# EAGLE library part A4988 (library behaviour_pcb_parts)
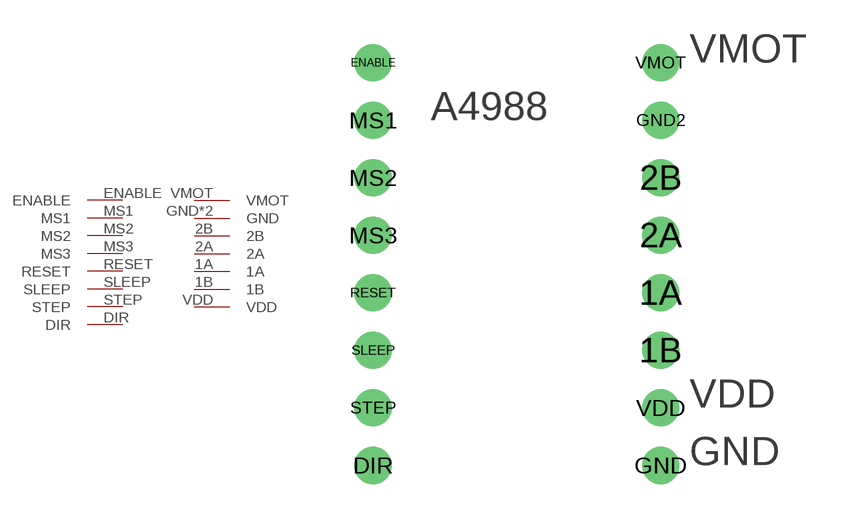
[diagram p0: symbol with the pads of A4988; footprint A4988]

Designator prefix -

## A4988  [A4988]
1A  1A
1B  1B
2A  2A
2B  2B
DIR  DIR
ENABLE  ENABLE
GND  GND
GND2  GND
MS1  MS1
MS2  MS2
MS3  MS3
RESET  RESET
SLEEP  SLEEP
STEP  STEP
VDD  VDD
VMOT  VMOT

## Footprint A4988 (pad centres in mm)
drill 1.1: 1A 12.7,-2.54; 1B 12.7,-5.08; 2A 12.7,0; 2B 12.7,2.54; DIR 0,-10.16; ENABLE 0,7.62; GND 12.7,-10.16; GND2 12.7,5.08; MS1 0,5.08; MS2 0,2.54; MS3 0,0; RESET 0,-2.54; SLEEP 0,-5.08; STEP 0,-7.62; VDD 12.7,-7.62; VMOT 12.7,7.62